# EAGLE library part TPS62082DSGR (library Kas-Power Regulator)
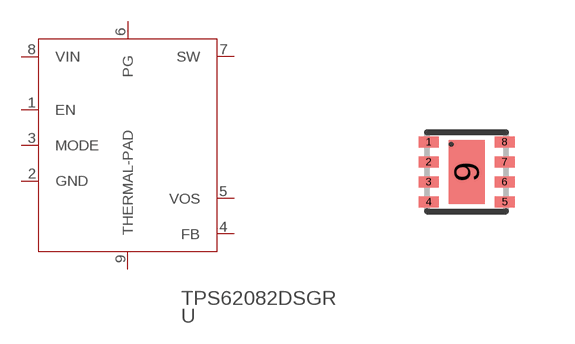
[diagram p0: symbol with the pads of S-PWSON-N8; footprint S-PWSON-N8]

Designator prefix U

## TPS62082DSGR (DATASHEETURL: http://www.ti.com/product/tps62082; FREQUENCY: 3100000.0; IMAX: 1.2; MANUFACTURER_NAME: Texas Instruments; MANUFACTURER_PART_NUMBER: TPS62082DSGR; MKTG_PACKAGE: TPS62082; NSID: TPS62082DSG; PACKAGE: TPS62082; VENDOR: Texas Instruments)  [S-PWSON-N8]
1  EN  pas
2  GND  pas
3  MODE  pas
4  FB  pas
5  VOS  pas
6  PG  pas
7  SW  pas
8  VIN  pas
9  THERMAL-PAD  pas

## Footprint S-PWSON-N8 (pad centres in mm)
smd 0.5 x 0.28: 1 -0.95,0.75; 2 -0.95,0.25; 3 -0.95,-0.25; 4 -0.95,-0.75; 5 0.95,-0.75; 6 0.95,-0.25; 7 0.95,0.25; 8 0.95,0.75
smd 0.9 x 1.6: 9 0,0